# Altium footprint library R82DC4100DQ60J.PcbLib: 1 footprints
Each footprint in its own frame and in the unit in brackets; x right, y up, seen from the top. Pads: shape width x height; smd on the part's side, far side on the other; paste and mask are expansions set on the pad; w line width, h text height; cw(c..) or ccw(c..) is an arc to the next point about the centre after c.
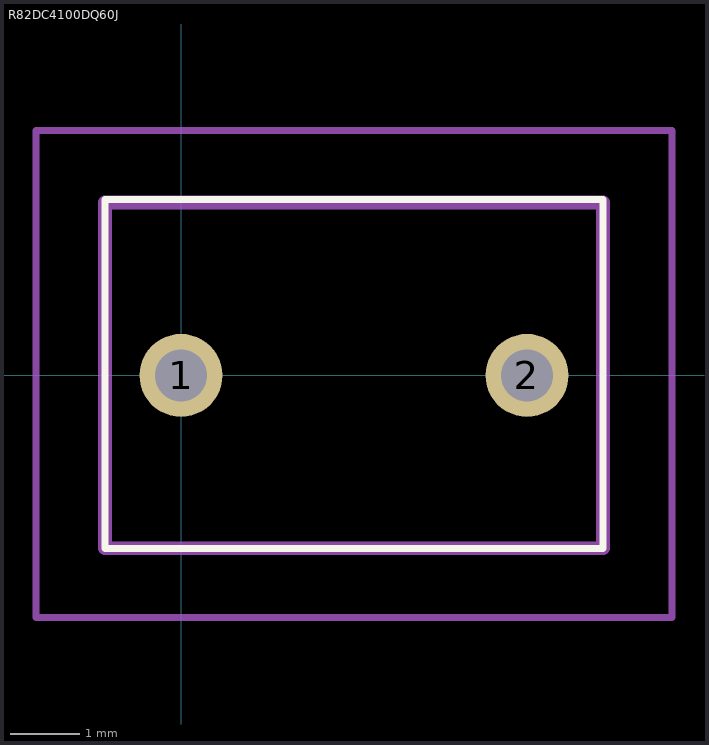
[diagram p0: the footprint, top view; thin cyan lines are the x and y axes]

## R82DC4100DQ60J [mm]
pads (2):
  round 1.2 hole 0.75: 1(0,0) 2(5,0)
Top Overlay:
  lines w0.1: -1.1,-2.5 6.1,-2.5 6.1,2.54 -1.1,2.54 -1.1,-2.5
Mechanical 15:
  lines w0.2: -1.1,-2.5 6.1,-2.5 6.1,2.5 -1.1,2.5 -1.1,-2.5
Mechanical 20:
  lines w0.1: -2.1,-3.5 7.1,-3.5 7.1,3.54 -2.1,3.54 -2.1,-3.5